# EAGLE library part LCD_CONNECTOR_24P (library pimoroni-connectors)
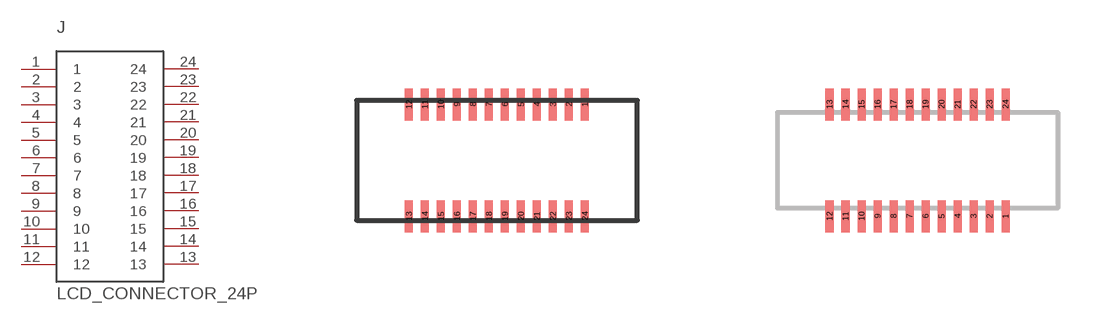
[diagram p18: symbol with the pads of LCD_CONNECTOR_24P; footprints LCD_CONNECTOR_24P, LCD_CONNECTOR_24P_MIRRORED]

Designator prefix J

## LCD_CONNECTOR_24P  [LCD_CONNECTOR_24P]
1  1
2  2
3  3
4  4
5  5
6  6
7  7
8  8
9  9
10  10
11  11
12  12
13  13
14  14
15  15
16  16
17  17
18  18
19  19
20  20
21  21
22  22
23  23
24  24

## LCD_CONNECTOR_24PMIRRORED  [LCD_CONNECTOR_24P_MIRRORED]
Pads as for LCD_CONNECTOR_24P

## Footprint LCD_CONNECTOR_24P (pad centres in mm)
smd 0.2 x 0.8: 1 2.2,1.4; 2 1.8,1.4; 3 1.4,1.4; 4 1,1.4; 5 0.6,1.4; 6 0.2,1.4; 7 -0.2,1.4; 8 -0.6,1.4; 9 -1,1.4; 10 -1.4,1.4; 11 -1.8,1.4; 12 -2.2,1.4; 13 -2.2,-1.4; 14 -1.8,-1.4; 15 -1.4,-1.4; 16 -1,-1.4; 17 -0.6,-1.4; 18 -0.2,-1.4; 19 0.2,-1.4; 20 0.6,-1.4; 21 1,-1.4; 22 1.4,-1.4; 23 1.8,-1.4; 24 2.2,-1.4

## Footprint LCD_CONNECTOR_24P_MIRRORED (pad centres in mm)
smd 0.2 x 0.8: 1 2.2,-1.4; 2 1.8,-1.4; 3 1.4,-1.4; 4 1,-1.4; 5 0.6,-1.4; 6 0.2,-1.4; 7 -0.2,-1.4; 8 -0.6,-1.4; 9 -1,-1.4; 10 -1.4,-1.4; 11 -1.8,-1.4; 12 -2.2,-1.4; 13 -2.2,1.4; 14 -1.8,1.4; 15 -1.4,1.4; 16 -1,1.4; 17 -0.6,1.4; 18 -0.2,1.4; 19 0.2,1.4; 20 0.6,1.4; 21 1,1.4; 22 1.4,1.4; 23 1.8,1.4; 24 2.2,1.4